# Altium footprint library VioletofSun.PcbLib: 319 footprints (part 20 of 20)
Each footprint in its own frame and in the unit in brackets; x right, y up, seen from the top. Pads: shape width x height; smd on the part's side, far side on the other; paste and mask are expansions set on the pad; w line width, h text height; cw(c..) or ccw(c..) is an arc to the next point about the centre after c.
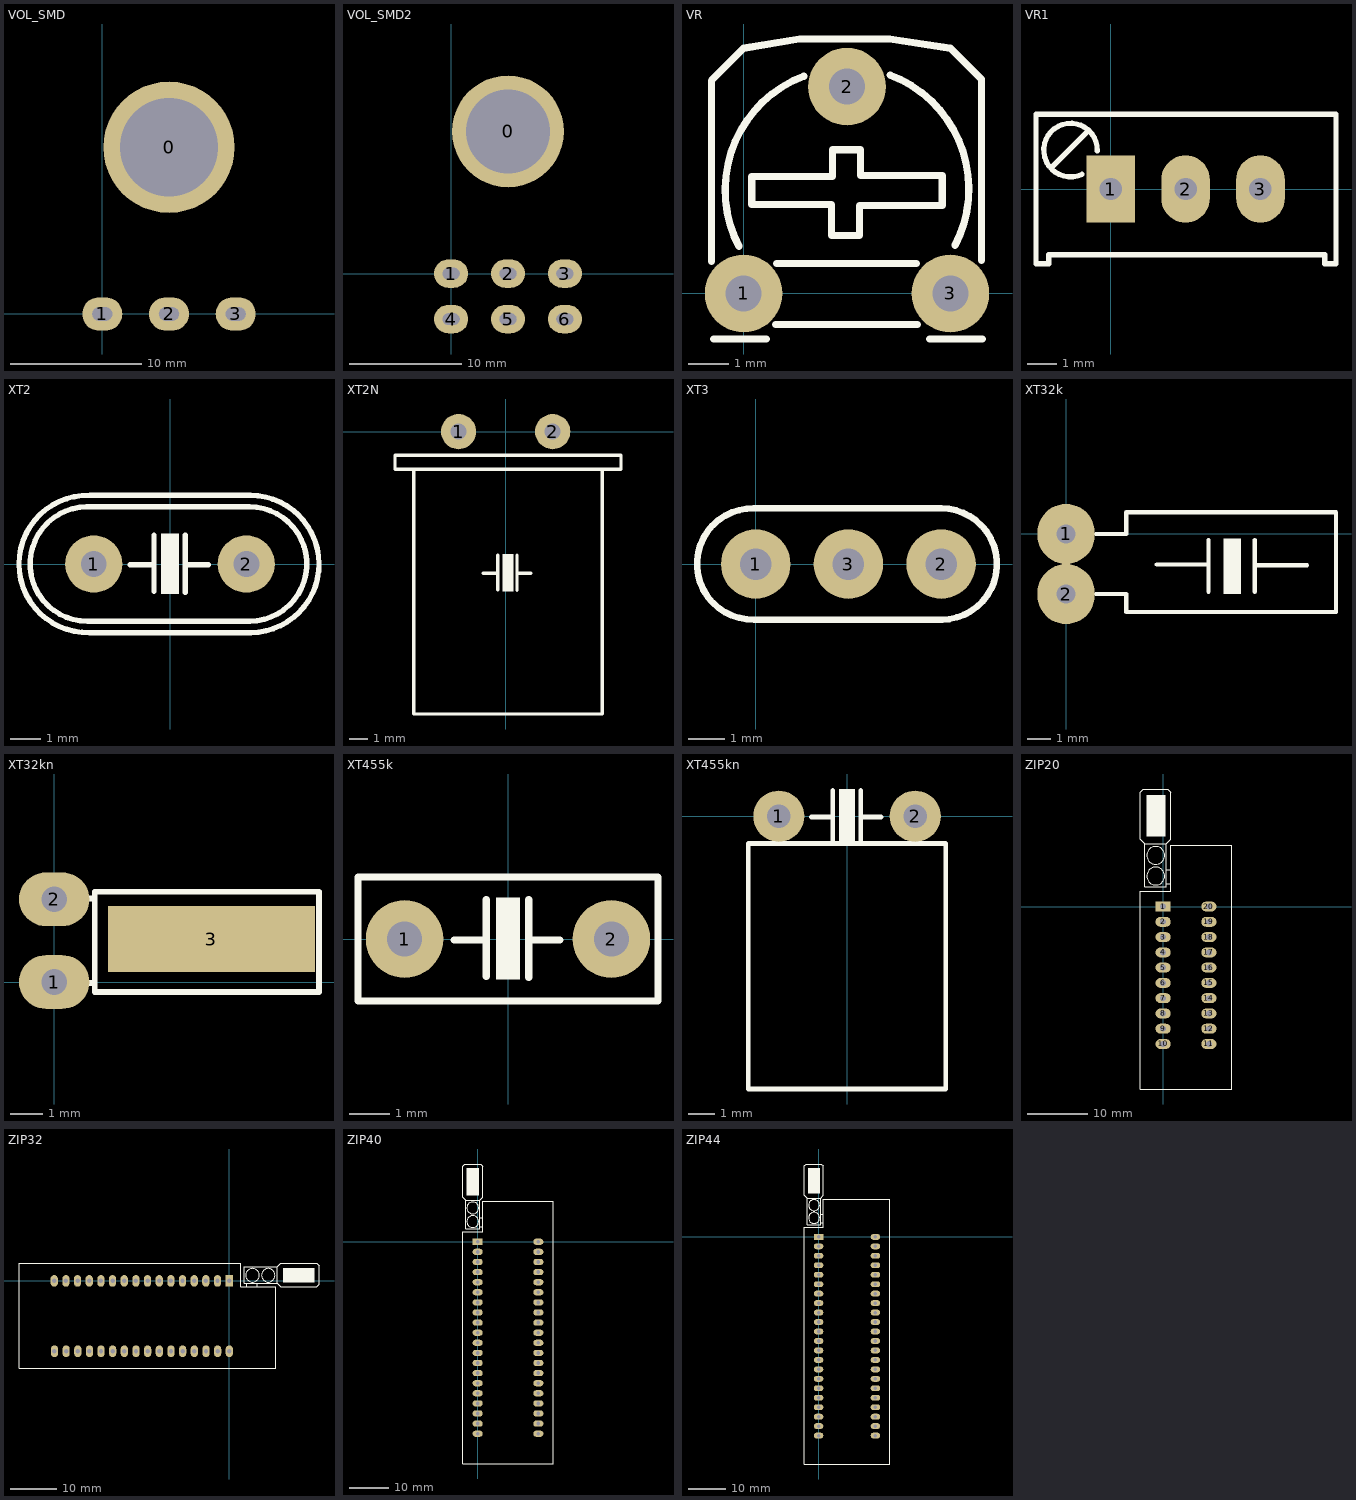
[diagram p19: the footprints below, top view; thin cyan lines are the x and y axes]

## VOL_SMD [mil]
pads (4):
  round 393.7 hole 295.28: 0(200,500)
  oval 120x100 hole 40 slot 60 at 0 deg: 1(0,0) 2(200,0) 3(400,0)
Bottom Overlay:
  circle w12: c200,500 r215.01
  circle w12: c0,150 r50
  circle w12: c200,150 r50
  circle w12: c400,150 r50
  lines w12: -57.25,301.71 cw(c200,500) 455.57,299.55 ; -55,299 127,299 ; -49,700 119,700 ; 281,298 455,298 ; 286,698 454,698 ; 455,295 500,250 500,-75 -100,-75 -100,255 ; -100,255 -55,300 -100,255
3D body: height 866.14, standoff -407.48, extent -203.15,-247.08 600,947.08

## VOL_SMD2 [mil]
pads (7):
  round 393.7 hole 295.28: 0(200,500)
  oval 120x100 hole 40 slot 60 at 0 deg: 1(0,0) 2(200,0) 3(400,0) 4(0,-160) 5(200,-160) 6(400,-160)
Bottom Overlay:
  circle w12: c400,150 r50
  circle w12: c200,150 r50
  circle w12: c0,150 r50
  circle w12: c200,500 r215.01
  lines w12: -100,-70 -100,-230 500,-230 500,-70 ; -57.25,301.71 cw(c200,500) 455.57,299.55 ; -55,299 127,299 ; -49,700 119,700 ; 281,298 455,298 ; 286,698 454,698 ; 455,295 500,250 500,-75 -100,-75 -100,255 ; -100,255 -55,300 -100,255

## VR [mil] "Resistor Variable"
height 200
pads (3):
  round 75 hole 35: 1(0,0) 2(100,200) 3(200,0)
Top Overlay:
  lines w7: -31,31 -31,206 0,237 54,246 141.5,246 200,237 230,207 230,32 ; -29,-44 22,-44 ; -4.35,45.34 cw(c100,100) 58.1,210.1 ; 8,113 8,86 85,86 85,56 112,56 112,85 192,85 192,114 113,114 113,139 86,139 86,113 9,113 ; 31,-30 168,-30 ; 32,29 167,29 ; 141.9,211.1 cw(c100,101) 204.35,46.34 ; 180,-44 231,-44
3D body: height 165.35, standoff -220.47, extent -86.85,-30 306.85,371.57

## VR1 [mil] "Variable Resistor"
height 400
pads (3):
  rect 65x90 hole 30: 1(0,0)
  oval 65x90 hole 30: 2(100,0) 3(200,0)
Top Overlay:
  lines w7: -80,28 -30,78 ; -38.6,19.63 cw(c-53.79,52.05) -18.01,50.77 ; -100,-100 -83,-100 -83,-88 286,-88 286,-100 301,-100 301,100 -100,100 -100,-100
3D body: height 455, standoff -45, extent -87.5,-130 287.5,110

## XT2 [mil] "Footpin for Crystal 2 pin"
pads (2):
  round 75 hole 34: 1(-100,0) 2(100,0)
Top Overlay:
  region: 11.5,40 11.5,-39 -11.5,-39 -11.5,40
  lines w7: -109,75 ccw(c-108.5,0) -108.27,-75 ; -106.97,-75 103.03,-75 ; -105.97,75 104.03,75 ; -105.02,-90 105.91,-90 ccw(c105.31,0) 105.03,90 -104.97,90.01 ccw(c-108,0.06) -105.02,-89.89 ; -52,-1 -21,-1 ; -21,-36 -21,38 ; 20,-37 20,38 ; 20,-1 50,-1 ; 104,75 cw(c104.23,0) 104.73,-75
3D body: height 137.8, standoff -157.48, extent -233.43,-93.07 213.43,90

## XT2N [mil] "Crystal 2pin, high 200 mil"
height 200
pads (2):
  round 75 hole 34: 1(-100,0) 2(100,0)
Top Overlay:
  region: 16.5,-260 16.5,-339 -6.5,-339 -6.5,-260
  lines w7: -48,-301 -17,-301 ; -17,-336 -17,-262 ; 24,-337 24,-262 ; 24,-301 54,-301 ; -235,-80 -195,-80 ; -235,-80 -235,-50 ; -235,-80 -195,-80 ; -235,-80 -235,-50 ; -235,-50 245,-50 ; -235,-50 245,-50 ; -195,-600 -195,-80 ; -195,-600 205,-600 ; -195,-600 -195,-80 ; -195,-600 205,-600 ; -195,-80 205,-80 ; -195,-80 205,-80 ; 205,-600 205,-80 ; 205,-600 205,-80 ; 205,-80 245,-80 ; 205,-80 245,-80 ; 245,-80 245,-50 ; 245,-80 245,-50
3D body: height 91.44, standoff -92.52, extent -209.86,-594.33 230,14.33

## XT3 [mil] "Crystal 3pin, High 200mil, Cremic"
height 200
pads (3):
  round 75 hole 34: 1(0,0) 2(200,0) 3(100,0)
Top Overlay:
  lines w7: -2,60 198,60 ; -1.38,-59.91 cw(c-3.36,0.06) -1.35,60.02 ; 1,-60 201,-60 ; 200.13,60 cw(c200.31,0) 200.71,-60

## XT32k [mil] "Crystal 32k, 2 pin, real timer for DS1307"
height 150
pads (2):
  oval 95x100 hole 32: 1(0,0) 2(0,-100)
Top Overlay:
  rectangle: 262,-100 291,-8
  lines w7: 50,-100 100,-100 100,-130 449,-130 449,36 100,36 100,0 50,0 ; 151,-51 237,-51 ; 237,-96 237,-10 ; 314,-96 314,-10 ; 315,-52 401,-52

## XT32kn [mil] "Crystal for 32,768kHz, 2pin"
height 150
pads (3):
  oval 85x65 hole 31: 1(0,0) 2(0,100)
  rect 250x80 smd: 3(190,52)
Top Overlay:
  lines w7: 34,-1 49,-1 ; 35,101 49,101 ; 49,101 49,109 320,109 320,-12 49,-12 49,101

## XT455k [mil] "Thach anh 455khz (Infrared)"
pads (2):
  round 75 hole 34: 1(-100,0) 2(100,0)
Top Overlay:
  region: 11.5,40 11.5,-39 -11.5,-39 -11.5,40
  lines w7: -52,-1 -21,-1 ; -21,-36 -21,38 ; 20,-37 20,38 ; 20,-1 50,-1 ; -145,-60 -145,60 145,60 145,-60 -145,-60

## XT455kn [mil] "Thach anh 455khz (Infrared)"
pads (2):
  round 75 hole 34: 1(-100,0) 2(100,0)
Top Overlay:
  region: 11.5,40 11.5,-39 -11.5,-39 -11.5,40
  lines w7: -52,-1 -21,-1 ; -21,-36 -21,38 ; 20,-37 20,38 ; 20,-1 50,-1 ; -145,-400 -145,-40 145,-40 145,-400 -145,-400

## ZIP20 [mil] "DIP 20, W 600mil/ L 1600mil"
height 300
pads (20):
  rect 100x65 hole 38: 1(0,0)
  oval 100x65 hole 38: 2(0,-100) 3(0,-200) 4(0,-300) 5(0,-400) 6(0,-500) 7(0,-600) 8(0,-700) 9(0,-800) 10(0,-900) 11(300,-900) 12(300,-800) 13(300,-700) 14(300,-600) 15(300,-500) 16(300,-400) 17(300,-300) 18(300,-200) 19(300,-100) 20(300,0)
Top Overlay:
  circle w7: c-48.31,200 r58.31
  circle w7: c-48.31,335 r58.31
  rectangle: -110,460 15,730
  lines w7: 20,150 50,150 ; 20,240 50,240 ; -120,410 20,410 ; -120,410 -150,440 -150,750 -130,770 30,770 50,750 50,440 20,410 ; -120,410 -120,130 -110,130 20,130 20,410 ; -150,-1195 450,-1195 450,400 50,400 50,100 -150,100 -150,-1195

## ZIP32 [mil] "32 PIN, W 900 mil , L 2200 mil , Push Pro FOR Chip"
height 300
pads (32):
  rect 62x100 hole 38: 1(0,0)
  oval 62x100 hole 38: 2(-100,0) 3(-200,0) 4(-300,0) 5(-400,0) 6(-500,0) 7(-600,0) 8(-700,0) 9(-800,0) 10(-900,0) 11(-1000,0) 12(-1100,0) 13(-1200,0) 14(-1300,0) 15(-1400,0) 16(-1500,0) 17(-1498,-603) 18(-1398,-603) 19(-1298,-603) 20(-1198,-603) 21(-1099,-603) 22(-999,-603) 23(-899,-603) 24(-799,-603) 25(-699,-603) 26(-599,-603) 27(-499,-603) 28(-399,-603) 29(-299,-603) 30(-199,-603) 31(-99,-603) 32(1,-603)
Top Overlay:
  circle w7: c200,48.31 r58.31
  circle w7: c335,48.31 r58.31
  region: 460,110 460,-15 730,-15 730,110
  lines w7: 150,-50 150,-20 ; 240,-50 240,-20 ; 410,-20 410,120 ; 410,-20 130,-20 130,110 130,120 410,120 ; 410,-20 440,-50 750,-50 770,-30 770,130 750,150 440,150 410,120 ; -1802,-750 400,-750 400,-600 400,-50 100,-50 100,150 -1802,150 -1802,-750

## ZIP40 [mil] "40 PIN, W 900 mil , L 2600 mil , Push Pro FOR Chip"
height 300
pads (40):
  rect 100x62 hole 38: 1(0,0)
  oval 100x62 hole 38: 2(0,-100) 3(0,-200) 4(0,-300) 5(0,-400) 6(0,-500) 7(0,-600) 8(0,-700) 9(0,-800) 10(0,-900) 11(0,-1000) 12(0,-1100) 13(0,-1200) 14(0,-1300) 15(0,-1400) 16(0,-1500) 17(0,-1600) 18(0,-1700) 19(0,-1800) 20(0,-1900) 21(600,-1900) 22(600,-1800) 23(600,-1700) 24(600,-1600) 25(600,-1500) 26(600,-1400) 27(600,-1300) 28(600,-1200) 29(600,-1100) 30(600,-1000) 31(600,-900) 32(600,-800) 33(600,-700) 34(600,-600) 35(600,-500) 36(600,-400) 37(600,-300) 38(600,-200) 39(600,-100) 40(600,0)
Top Overlay:
  circle w7: c-48.31,335 r58.31
  circle w7: c-48.31,200 r58.31
  rectangle: -110,460 15,730
  lines w7: 20,150 50,150 ; 20,240 50,240 ; -120,410 -120,130 -110,130 20,130 20,410 ; -120,410 -150,440 -150,750 -130,770 30,770 50,750 50,440 20,410 ; -120,410 20,410 ; -150,-2200 -150,100 50,100 50,400 600,400 750,400 750,-2200 -150,-2200
3D body: height 443.07, standoff -186.85, extent -189.6,-2144.51 750,894.51

## ZIP44 [mil] "40 PIN, W 900 mil , L 2600 mil , Push Pro FOR Chip"
height 300
pads (44):
  rect 100x62 hole 38: 1(0,0)
  oval 100x62 hole 38: 2(0,-100) 3(0,-200) 4(0,-300) 5(0,-400) 6(0,-500) 7(0,-600) 8(0,-700) 9(0,-800) 10(0,-900) 11(0,-1000) 12(0,-1100) 13(0,-1200) 14(0,-1300) 15(0,-1400) 16(0,-1500) 17(0,-1600) 18(0,-1700) 19(0,-1800) 20(0,-1900) 21(0,-2000) 22(0,-2100) 23(600,-2100) 24(600,-2000) 25(600,-1900) 26(600,-1800) 27(600,-1700) 28(600,-1600) 29(600,-1500) 30(600,-1400) 31(600,-1300) 32(600,-1200) 33(600,-1100) 34(600,-1000) 35(600,-900) 36(600,-800) 37(600,-700) 38(600,-600) 39(600,-500) 40(600,-400) 41(600,-300) 42(600,-200) 43(600,-100) 44(600,0)
Top Overlay:
  circle w7: c-48.31,335 r58.31
  circle w7: c-48.31,200 r58.31
  rectangle: -110,460 15,730
  lines w7: 20,150 50,150 ; 20,240 50,240 ; -120,410 -120,130 -110,130 20,130 20,410 ; -120,410 -150,440 -150,750 -130,770 30,770 50,750 50,440 20,410 ; -120,410 20,410 ; -150,-2400 -150,100 50,100 50,400 600,400 750,400 750,-2400 -150,-2400